# EAGLE library part DM3CS-SF (library DM3CS-SF)
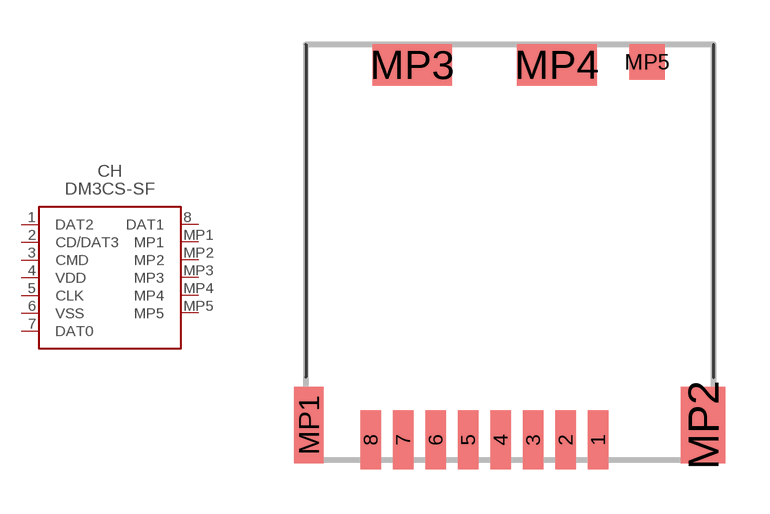
[diagram p0: symbol with the pads of DM3CS-SF; footprint DM3CS-SF]

Designator prefix CH

## DM3CS-SF  [DM3CS-SF]
1  DAT2
2  CD/DAT3
3  CMD
4  VDD
5  CLK
6  VSS
7  DAT0
8  DAT1
MP1  MP1
MP2  MP2
MP3  MP3
MP4  MP4
MP5  MP5

## Footprint DM3CS-SF (pad centres in mm)
smd 0.7 x 2: 1 3,1.27; 2 1.9,1.27; 3 0.8,1.27; 4 -0.3,1.27; 5 -1.4,1.27; 6 -2.5,1.27; 7 -3.6,1.27; 8 -4.7,1.27
smd 1 x 2.6: MP1 -6.8,1.77
smd 1.5 x 2.6: MP2 6.55,1.77
smd 2.7 x 1.4: MP3 -3.3,13.97; MP4 1.6,13.97
smd 1.2 x 1.2: MP5 4.65,14.07